# EAGLE library part SN74LV8151 (library mx4660-cape)
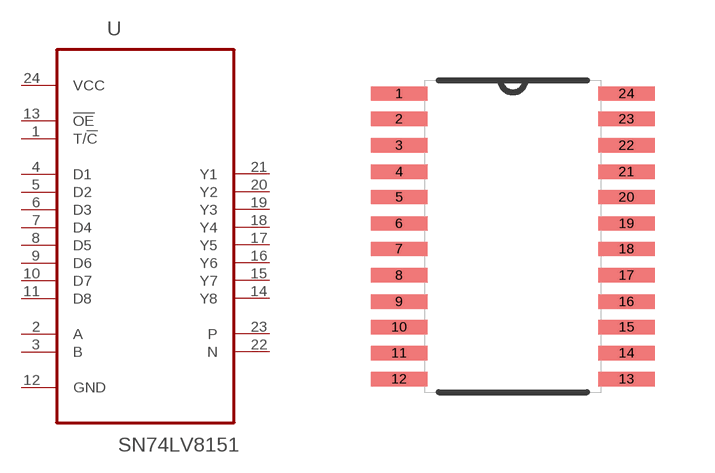
[diagram p2: symbol with the pads of TSSOP-24; footprint TSSOP-24]

Designator prefix U

## SN74LV8151  [TSSOP-24]
1  T/!C  in
2  A  in
3  B  in
4  D1  in
5  D2  in
6  D3  in
7  D4  in
8  D5  in
9  D6  in
10  D7  in
11  D8  in
12  GND  pas
13  !OE  in
14  Y8  out
15  Y7  out
16  Y6  out
17  Y5  out
18  Y4  out
19  Y3  out
20  Y2  out
21  Y1  out
22  N  out
23  P  out
24  VCC  pwr

## Footprint TSSOP-24 (pad centres in mm)
smd 1.422 x 0.356: 1 -2.845,2.921; 2 -2.845,2.286; 3 -2.845,1.626; 4 -2.845,0.965; 5 -2.845,0.33; 6 -2.845,-0.33; 7 -2.845,-0.965; 8 -2.845,-1.626; 9 -2.845,-2.286; 10 -2.845,-2.921; 11 -2.845,-3.571; 12 -2.845,-4.221; 13 2.845,-4.221; 14 2.845,-3.571; 15 2.845,-2.921; 16 2.845,-2.286; 17 2.845,-1.626; 18 2.845,-0.965; 19 2.845,-0.33; 20 2.845,0.33; 21 2.845,0.965; 22 2.845,1.626; 23 2.845,2.286; 24 2.845,2.921